# Altium footprint library GCM1885C2A100JA16D.PcbLib: 4 footprints
Each footprint in its own frame and in the unit in brackets; x right, y up, seen from the top. Pads: shape width x height; smd on the part's side, far side on the other; paste and mask are expansions set on the pad; w line width, h text height; cw(c..) or ccw(c..) is an arc to the next point about the centre after c.
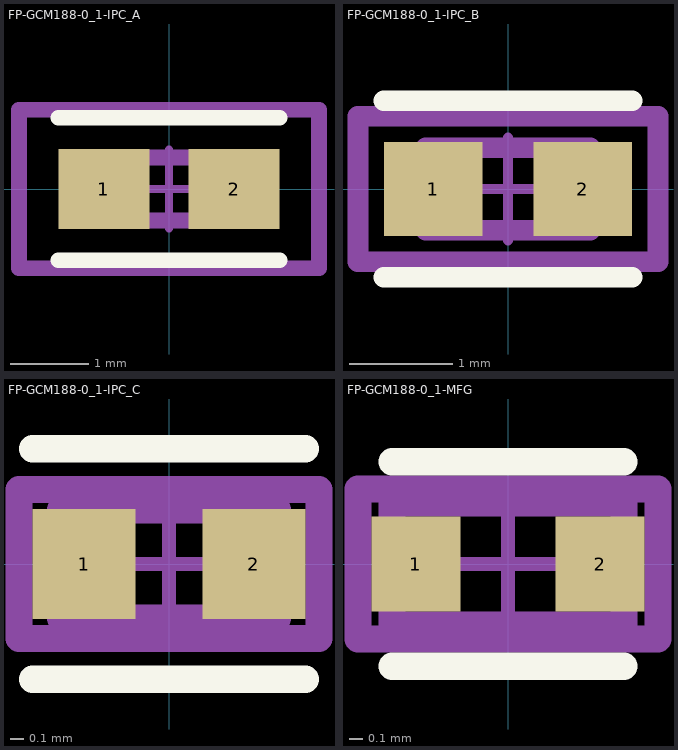
[diagram p0: the footprints below, top view; thin cyan lines are the x and y axes]

## FP-GCM188-0_1-IPC_A [mm]
pads (2):
  rect 1.159x1.012 smd paste+0 mask+0: 1(-0.827,0) 2(0.827,0)
Top Overlay:
  lines w0.2: -1.406,-0.906 1.406,-0.906 ; -1.406,0.906 1.406,0.906
Top Assembly:
  lines w0.2: -1.906,-1.006 1.906,-1.006 1.906,1.006 -1.906,1.006 -1.906,-1.006
  text ".Designator" at 0,0.188 h1
Top 3D Body:
  lines w0.2: -0.8,-0.4 0.8,-0.4 0.8,0.4 -0.8,0.4 -0.8,-0.4
Top Courtyard:
  lines w0.2: -1.906,-1.006 1.906,-1.006 1.906,1.006 -1.906,1.006 -1.906,-1.006
Top Component Center:
  lines w0.1: -0.5,0 0.5,0 ; 0,-0.5 0,0.5
3D body "Cap_Murata_GCM1885C2A5R3BA16J_eec.STEP": height 0.25, standoff 0, extent -1.906,-1.006 1.906,1.006

## FP-GCM188-0_1-IPC_B [mm]
pads (2):
  rect 0.959x0.912 smd paste+0 mask+0: 1(-0.727,0) 2(0.727,0)
Top Overlay:
  lines w0.2: -1.206,-0.856 1.206,-0.856 ; -1.206,0.856 1.206,0.856
Top Assembly:
  lines w0.2: -1.456,-0.706 1.456,-0.706 1.456,0.706 -1.456,0.706 -1.456,-0.706
  text ".Designator" at 0,0.188 h1
Top 3D Body:
  lines w0.2: -0.8,-0.4 0.8,-0.4 0.8,0.4 -0.8,0.4 -0.8,-0.4
Top Courtyard:
  lines w0.2: -1.456,-0.706 1.456,-0.706 1.456,0.706 -1.456,0.706 -1.456,-0.706
Top Component Center:
  lines w0.1: -0.5,0 0.5,0 ; 0,-0.5 0,0.5
3D body "Cap_Murata_GCM1885C2A5R3BA16J_eec.STEP": height 0.25, standoff 0, extent -1.456,-0.706 1.456,0.706

## FP-GCM188-0_1-IPC_C [mm]
pads (2):
  rect 0.759x0.812 smd paste+0 mask+0: 1(-0.627,0) 2(0.627,0)
Top Overlay:
  lines w0.2: -1.006,-0.85 1.006,-0.85 ; -1.006,0.85 1.006,0.85
Top Assembly:
  lines w0.2: -1.106,-0.55 1.106,-0.55 1.106,0.55 -1.106,0.55 -1.106,-0.55
  text ".Designator" at 0,0.188 h1
Top 3D Body:
  lines w0.2: -0.8,-0.4 0.8,-0.4 0.8,0.4 -0.8,0.4 -0.8,-0.4
Top Courtyard:
  lines w0.2: -1.106,-0.55 1.106,-0.55 1.106,0.55 -1.106,0.55 -1.106,-0.55
Top Component Center:
  lines w0.1: -0.5,0 0.5,0 ; 0,-0.5 0,0.5
3D body "Cap_Murata_GCM1885C2A5R3BA16J_eec.STEP": height 0.25, standoff 0, extent -1.106,-0.55 1.106,0.55

## FP-GCM188-0_1-MFG [mm]
pads (2):
  rect 0.65x0.7 smd paste+0 mask+0: 1(-0.675,0) 2(0.675,0)
Top Overlay:
  lines w0.2: -0.85,-0.75 0.85,-0.75 ; -0.85,0.75 0.85,0.75
Top Assembly:
  lines w0.2: -1.1,-0.55 1.1,-0.55 1.1,0.55 -1.1,0.55 -1.1,-0.55
  text ".Designator" at 0,0.188 h1
Top 3D Body:
  lines w0.2: -0.85,-0.45 0.85,-0.45 0.85,0.45 -0.85,0.45 -0.85,-0.45
Top Courtyard:
  lines w0.2: -1.1,-0.55 1.1,-0.55 1.1,0.55 -1.1,0.55 -1.1,-0.55
Top Component Center:
  lines w0.1: -0.5,0 0.5,0 ; 0,-0.5 0,0.5
3D body "Cap_Murata_GCM1885C2A5R3BA16J_eec.STEP": height 0.25, standoff 0, extent -1.1,-0.55 1.1,0.55